# EAGLE library part LM5106 (library okamoto)
LM5106(National Semiconductor) 100V Half Bridge Gate Driver with Programmable Dead-Time Drives both a high side and low side N-channel MOSFET 1.8A peak output sink current
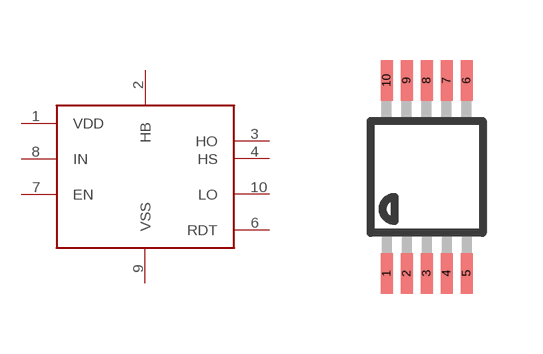
[diagram p0: symbol with the pads of MSOP10; footprint MSOP10]

Designator prefix -

## LM5106  [MSOP10]
1  VDD  pwr
2  HB  out
3  HO  out
4  HS  out
6  RDT  in
7  EN  in
8  IN  in
9  VSS  pwr
10  LO  out

## Footprint MSOP10 (pad centres in mm)
10-Lead Mini Small Outline Package [MSOP] (RM-10) Source: http://www.analog.com/UploadedFiles/Data_Sheets/35641221898805SSM2167_b.pdf COMPLIANT TO JEDEC STANDARDS MO-187BA
smd 0.3 x 1.02: 1 -1,-2.413; 2 -0.5,-2.413; 3 0,-2.413; 4 0.5,-2.413; 5 1,-2.413; 6 1,2.413; 7 0.5,2.413; 8 0,2.413; 9 -0.5,2.413; 10 -1,2.413